# Altium footprint library Connectors_Misc.PcbLib: 46 footprints (part 2 of 3)
Each footprint in its own frame and in the unit in brackets; x right, y up, seen from the top. Pads: shape width x height; smd on the part's side, far side on the other; paste and mask are expansions set on the pad; w line width, h text height; cw(c..) or ccw(c..) is an arc to the next point about the centre after c.
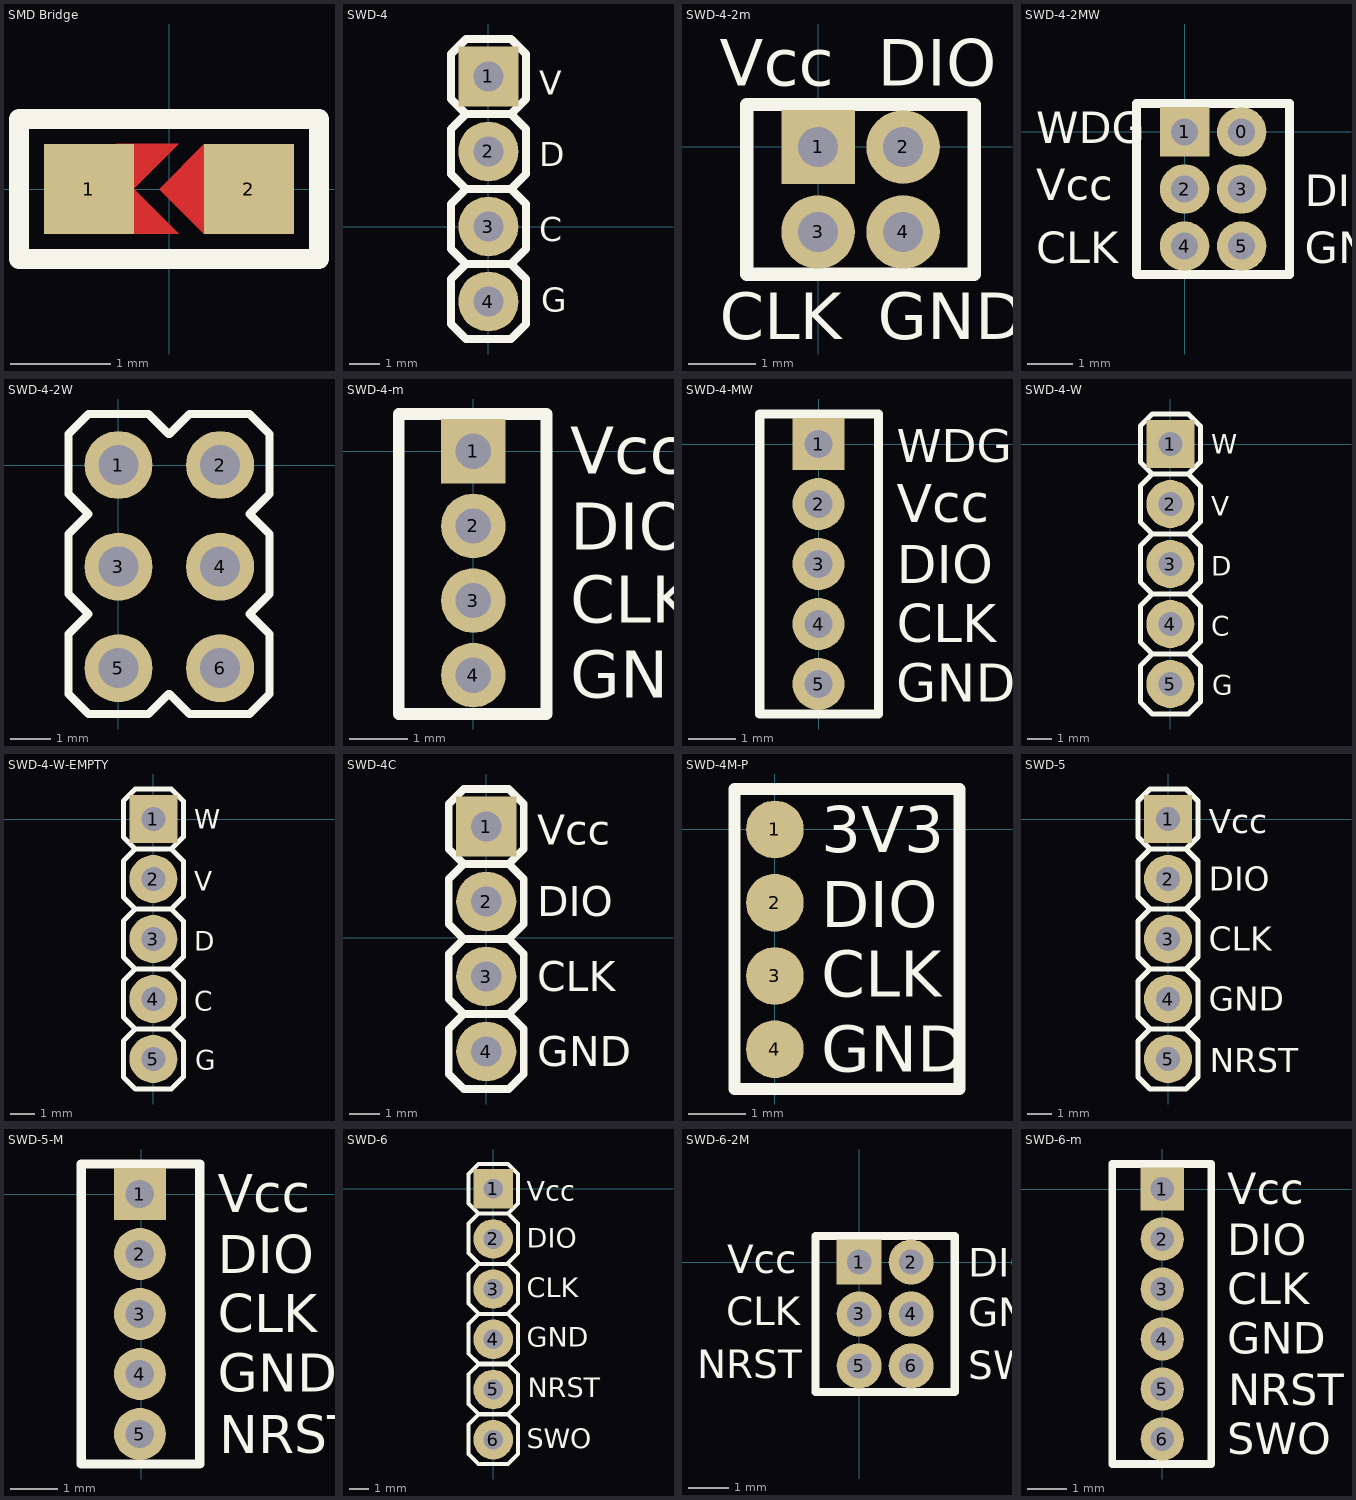
[diagram p1: the footprints below, top view; thin cyan lines are the x and y axes]

## SMD Bridge [mm]
pads (2):
  rect 0.9x0.9 smd: 1(-0.8,0) 2(0.8,0)
Top Layer:
  region: -0.525,0.45 0.1,0.45 -0.35,0 0.1,-0.45 -0.525,-0.45
  region: 0.35,0.45 -0.1,0 0.35,-0.45 0.5,-0.45 0.5,0.45
Top Overlay:
  lines w0.2: -1.5,-0.7 -1.5,0.7 1.5,0.7 1.5,-0.7 -1.5,-0.7
Top Solder:
  rectangle: -0.125,-0.55 0.525,0.55

## SWD-4 [mm]
pads (4):
  rect 2x2 hole 1: 1(0,5)
  round 2 hole 1: 2(0,2.5) 3(0,0) 4(0,-2.5)
Top Overlay:
  lines w0.254: -0.75,-1.25 0.75,-1.25 ; -0.75,-1.25 -1.25,-0.75 -1.25,0.75 -0.75,1.25 ; -0.75,-1.25 -1.25,-1.75 -1.25,-3.25 -0.75,-3.75 0.75,-3.75 1.25,-3.25 1.25,-1.75 0.75,-1.25 ; -0.75,1.25 -1.25,1.75 -1.25,3.25 -0.75,3.75 ; -0.75,1.25 0.75,1.25 ; -0.75,3.75 0.75,3.75 ; -0.75,3.75 -1.25,4.25 -1.25,5.75 -0.75,6.25 0.75,6.25 1.25,5.75 1.25,4.25 0.75,3.75 ; 0.75,-1.25 1.25,-0.75 1.25,0.75 0.75,1.25 ; 0.75,1.25 1.25,1.75 1.25,3.25 0.75,3.75
  text "G" at 1.751,-2.841 h0.8
  text "D" at 1.7,2 h0.8
  text "C" at 1.7,-0.5 h0.8
  text "V" at 1.7,4.4 h0.8
3D body "User Library-PLS-1.STEP": height 8.44, standoff -3, extent -1.27,-3.77 1.27,-1.23
3D body "User Library-PLS-1.STEP": height 8.44, standoff -3, extent -1.27,-1.27 1.27,1.27
3D body "User Library-PLS-1.STEP": height 8.44, standoff -3, extent -1.27,1.23 1.27,3.77
3D body "User Library-PLS-1.STEP": height 8.44, standoff -3, extent -1.27,3.73 1.27,6.27

## SWD-4-2m [mm]
pads (4):
  rect 1.1x1.1 hole 0.6: 1(0,0)
  round 1.1 hole 0.6: 2(1.27,0) 3(0,-1.27) 4(1.27,-1.27)
Top Overlay:
  lines w0.2: -1.067,-1.905 2.337,-1.905 2.337,0.635 -1.067,0.635 -1.067,-1.905
  text "DIO" at 0.889,0.914 h0.7
  text "CLK" at -1.473,-2.87 h0.7
  text "GND" at 0.889,-2.87 h0.7
  text "Vcc" at -1.473,0.914 h0.7
3D body "PLL-2.stp": height 5.2, standoff -2.9, extent 0.17,-2.1 2.37,0.85
3D body "PLL-2.stp": height 5.2, standoff -2.9, extent -1.1,-2.1 1.1,0.85

## SWD-4-2MW [mm]
pads (6):
  round 1.1 hole 0.6: 0(1.27,0) 2(0,-1.27) 3(1.27,-1.27) 4(0,-2.54) 5(1.27,-2.54)
  rect 1.1x1.1 hole 0.6: 1(0,0)
Top Overlay:
  lines w0.2: -1.067,-3.175 -1.067,0.635 2.337,0.635 2.337,-3.175 -1.067,-3.175
  text "Vcc" at -3.302,-1.524 h0.7
  text "GND" at 2.667,-2.921 h0.7
  text "CLK" at -3.302,-2.921 h0.7
  text "DIO" at 2.667,-1.651 h0.7
  text "WDG" at -3.302,-0.254 h0.7
3D body "PLL-3.stp": height 5.2, standoff -2.9, extent 0.17,-3.38 2.37,0.84
3D body "PLL-3.stp": height 5.2, standoff -2.9, extent -1.1,-3.38 1.1,0.84

## SWD-4-2W [mm]
pads (6):
  round 1.7 hole 1 paste+0: 1(0,0) 2(2.54,0) 3(0,-2.54) 4(2.54,-2.54) 5(0,-5.08) 6(2.54,-5.08)
Top Overlay:
  lines w0.2: 1.25,-5.725 0.75,-6.225 -0.75,-6.225 -1.25,-5.725 -1.25,-4.225 -0.75,-3.725 -1.25,-3.225 -1.25,-1.725 -0.75,-1.225 -1.25,-0.725 -1.25,0.775 -0.75,1.275 0.75,1.275 1.25,0.775 ; 1.275,-5.725 1.775,-6.225 3.275,-6.225 3.775,-5.725 3.775,-4.225 3.275,-3.725 3.775,-3.225 3.775,-1.725 3.275,-1.225 3.775,-0.725 3.775,0.775 3.275,1.275 1.775,1.275 1.275,0.775
3D body "User Library-PLS-1.STEP": height 8.44, standoff -3, extent -1.27,-1.27 1.27,1.27
3D body "User Library-PLS-1.STEP": height 8.44, standoff -3, extent 1.27,-1.27 3.81,1.27
3D body "User Library-PLS-1.STEP": height 8.44, standoff -3, extent -1.27,-3.81 1.27,-1.27
3D body "User Library-PLS-1.STEP": height 8.44, standoff -3, extent 1.27,-3.81 3.81,-1.27
3D body "User Library-PLS-1.STEP": height 8.44, standoff -3, extent -1.27,-6.35 1.27,-3.81
3D body "User Library-PLS-1.STEP": height 8.44, standoff -3, extent 1.27,-6.35 3.81,-3.81

## SWD-4-m [mm]
pads (4):
  rect 1.1x1.1 hole 0.6: 1(0,0)
  round 1.1 hole 0.6: 2(0,-1.27) 3(0,-2.54) 4(0,-3.81)
Top Overlay:
  lines w0.2: -1.27,-4.47 -1.27,0.635 1.245,0.635 1.245,-4.47 -1.27,-4.47
  text "Vcc" at 1.651,-0.381 h0.8
  text "GND" at 1.649,-4.19 h0.8
  text "CLK" at 1.651,-2.921 h0.8
  text "DIO" at 1.651,-1.676 h0.8
3D body "PLL-2.stp": height 5.2, standoff -2.9, extent -1.1,-4.64 1.1,-1.69
3D body "PLL-2.stp": height 5.2, standoff -2.9, extent -1.1,-2.1 1.1,0.85

## SWD-4-MW [mm]
pads (5):
  rect 1.1x1.1 hole 0.6: 1(0,0)
  round 1.1 hole 0.6: 2(0,-1.27) 3(0,-2.54) 4(0,-3.81) 5(0,-5.08)
Top Overlay:
  lines w0.2: -1.245,-5.715 1.27,-5.715 1.27,0.635 -1.245,0.635 -1.245,-5.715
  text "DIO" at 1.651,-2.946 h0.8
  text "CLK" at 1.651,-4.191 h0.8
  text "GND" at 1.649,-5.46 h0.8
  text "Vcc" at 1.651,-1.651 h0.8
  text "WDG" at 1.651,-0.381 h0.7
3D body "PLL-3.stp": height 5.2, standoff -2.9, extent -1.1,-3.38 1.1,0.84
3D body "PLL-2.stp": height 5.2, standoff -2.9, extent -1.1,-5.91 1.1,-2.96

## SWD-4-W [mm]
pads (5):
  rect 2x2 hole 1: 1(0,0)
  round 2 hole 1: 2(0,-2.5) 3(0,-5) 4(0,-7.5) 5(0,-10)
Top Overlay:
  lines w0.2: 1.25,-10.65 1.25,-9.4 ; -0.75,-8.75 0.75,-8.75 ; -0.75,-8.75 -1.25,-9.25 -1.25,-10.75 -0.75,-11.25 0.75,-11.25 1.25,-10.75 1.25,-9.25 0.75,-8.75 ; -0.75,-8.75 -1.25,-8.25 -1.25,-6.75 -0.75,-6.25 ; -0.75,-8.75 0.75,-8.75 ; -0.75,-6.25 -1.25,-5.75 -1.25,-4.25 -0.75,-3.75 ; -0.75,-6.25 0.75,-6.25 ; -0.75,-3.75 -1.25,-3.25 -1.25,-1.75 -0.75,-1.25 ; -0.75,-3.75 0.75,-3.75 ; -0.75,-1.25 -1.25,-0.75 -1.25,0.75 -0.75,1.25 0.75,1.25 1.25,0.75 1.25,-0.75 0.75,-1.25 ; -0.75,-1.25 0.75,-1.25 ; 0.75,-8.75 1.25,-8.25 1.25,-6.75 0.75,-6.25 ; 0.75,-6.25 1.25,-5.75 1.25,-4.25 0.75,-3.75 ; 0.75,-3.75 1.25,-3.25 1.25,-1.75 0.75,-1.25
  text "W" at 1.7,-0.4 h0.8
  text "V" at 1.7,-3 h0.8
  text "G" at 1.751,-10.441 h0.8
  text "C" at 1.7,-8 h0.8
  text "D" at 1.7,-5.5 h0.8
3D body "User Library-PLS-1.STEP": height 8.44, standoff -3, extent -1.27,-1.27 1.27,1.27
3D body "User Library-PLS-1.STEP": height 8.44, standoff -3, extent -1.27,-3.77 1.27,-1.23
3D body "User Library-PLS-1.STEP": height 8.44, standoff -3, extent -1.27,-6.27 1.27,-3.73
3D body "User Library-PLS-1.STEP": height 8.44, standoff -3, extent -1.27,-8.77 1.27,-6.23
3D body "User Library-PLS-1.STEP": height 8.44, standoff -3, extent -1.27,-11.27 1.27,-8.73

## SWD-4-W-EMPTY [mm]
pads (5):
  rect 2x2 hole 1: 1(0,0)
  round 2 hole 1: 2(0,-2.5) 3(0,-5) 4(0,-7.5) 5(0,-10)
Top Overlay:
  lines w0.2: 1.25,-10.65 1.25,-9.4 ; -0.75,-8.75 0.75,-8.75 ; -0.75,-8.75 -1.25,-9.25 -1.25,-10.75 -0.75,-11.25 0.75,-11.25 1.25,-10.75 1.25,-9.25 0.75,-8.75 ; -0.75,-8.75 -1.25,-8.25 -1.25,-6.75 -0.75,-6.25 ; -0.75,-8.75 0.75,-8.75 ; -0.75,-6.25 -1.25,-5.75 -1.25,-4.25 -0.75,-3.75 ; -0.75,-6.25 0.75,-6.25 ; -0.75,-3.75 -1.25,-3.25 -1.25,-1.75 -0.75,-1.25 ; -0.75,-3.75 0.75,-3.75 ; -0.75,-1.25 -1.25,-0.75 -1.25,0.75 -0.75,1.25 0.75,1.25 1.25,0.75 1.25,-0.75 0.75,-1.25 ; -0.75,-1.25 0.75,-1.25 ; 0.75,-8.75 1.25,-8.25 1.25,-6.75 0.75,-6.25 ; 0.75,-6.25 1.25,-5.75 1.25,-4.25 0.75,-3.75 ; 0.75,-3.75 1.25,-3.25 1.25,-1.75 0.75,-1.25
  text "W" at 1.7,-0.4 h0.8
  text "V" at 1.7,-3 h0.8
  text "G" at 1.751,-10.441 h0.8
  text "C" at 1.7,-8 h0.8
  text "D" at 1.7,-5.5 h0.8

## SWD-4C [mm] "SWD connector"
pads (4):
  rect 2x2 hole 1: 1(0,3.7)
  round 2 hole 1: 2(0,1.2) 3(0,-1.3) 4(0,-3.8)
Top Overlay:
  lines w0.254: -0.75,-2.55 0.75,-2.55 ; -0.75,-2.55 -1.25,-2.05 -1.25,-0.55 -0.75,-0.05 ; -0.75,-2.55 -1.25,-3.05 -1.25,-4.55 -0.75,-5.05 0.75,-5.05 1.25,-4.55 1.25,-3.05 0.75,-2.55 ; -0.75,-0.05 -1.25,0.45 -1.25,1.95 -0.75,2.45 ; -0.75,-0.05 0.75,-0.05 ; -0.75,2.45 0.75,2.45 ; -0.75,2.45 -1.25,2.95 -1.25,4.45 -0.75,4.95 0.75,4.95 1.25,4.45 1.25,2.95 0.75,2.45 ; 0.75,-2.55 1.25,-2.05 1.25,-0.55 0.75,-0.05 ; 0.75,-0.05 1.25,0.45 1.25,1.95 0.75,2.45
  text "DIO" at 1.7,0.7 h1
  text "CLK" at 1.7,-1.8 h1
  text "GND" at 1.7,-4.3 h1
  text "Vcc" at 1.7,3.1 h1
3D body "PLS-1R.step": height 5.45, standoff -3, extent -7.35,2.51 1.27,5.05
3D body "PLS-1R.step": height 5.45, standoff -3, extent -7.35,-2.57 1.27,-0.03
3D body "PLS-1R.step": height 5.45, standoff -3, extent -7.35,-5.11 1.27,-2.57
3D body "PLS-1R.step": height 5.45, standoff -3, extent -7.35,-0.03 1.27,2.51

## SWD-4M-P [mm] "SWD-4 mini pads"
pads (4):
  round 1 smd: 1(0,0) 2(0,-1.27) 3(0,-2.54) 4(0,-3.81)
Top Overlay:
  lines w0.2: -0.7,-4.5 -0.7,0.7 3.2,0.7 3.2,-4.5 -0.7,-4.5
  text "GND" at 0.8,-4.2 h0.8
  text "CLK" at 0.8,-2.9 h0.8
  text "DIO" at 0.8,-1.7 h0.8
  text "3V3" at 0.8,-0.4 h0.8

## SWD-5 [mm]
pads (5):
  rect 2x2 hole 1: 1(0,0)
  round 2 hole 1: 2(0,-2.5) 3(0,-5) 4(0,-7.5) 5(0,-10)
Top Overlay:
  lines w0.2: -0.75,-8.75 0.75,-8.75 ; -0.75,-8.75 -1.25,-9.25 -1.25,-10.75 -0.75,-11.25 0.75,-11.25 1.25,-10.75 1.25,-9.25 0.75,-8.75 ; -0.75,-8.75 -1.25,-8.25 -1.25,-6.75 -0.75,-6.25 ; -0.75,-8.75 0.75,-8.75 ; -0.75,-6.25 -1.25,-5.75 -1.25,-4.25 -0.75,-3.75 ; -0.75,-6.25 0.75,-6.25 ; -0.75,-3.75 -1.25,-3.25 -1.25,-1.75 -0.75,-1.25 ; -0.75,-3.75 0.75,-3.75 ; -0.75,-1.25 -1.25,-0.75 -1.25,0.75 -0.75,1.25 0.75,1.25 1.25,0.75 1.25,-0.75 0.75,-1.25 ; -0.75,-1.25 0.75,-1.25 ; 0.75,-8.75 1.25,-8.25 1.25,-6.75 0.75,-6.25 ; 0.75,-6.25 1.25,-5.75 1.25,-4.25 0.75,-3.75 ; 0.75,-3.75 1.25,-3.25 1.25,-1.75 0.75,-1.25
  text "NRST" at 1.75,-10.55 h1
  text "Vcc" at 1.7,-0.6 h1
  text "GND" at 1.7,-8 h1
  text "CLK" at 1.7,-5.5 h1
  text "DIO" at 1.7,-3 h1
3D body "User Library-PLS-1.STEP": height 8.44, standoff -3, extent -1.27,-1.27 1.27,1.27
3D body "User Library-PLS-1.STEP": height 8.44, standoff -3, extent -1.27,-3.77 1.27,-1.23
3D body "User Library-PLS-1.STEP": height 8.44, standoff -3, extent -1.27,-6.27 1.27,-3.73
3D body "User Library-PLS-1.STEP": height 8.44, standoff -3, extent -1.27,-8.77 1.27,-6.23
3D body "User Library-PLS-1.STEP": height 8.44, standoff -3, extent -1.27,-11.27 1.27,-8.73

## SWD-5-M [mm]
pads (5):
  rect 1.1x1.1 hole 0.6: 1(-0.025,0)
  round 1.1 hole 0.6: 2(-0.025,-1.27) 3(-0.025,-2.54) 4(-0.025,-3.81) 5(-0.025,-5.08)
Top Overlay:
  lines w0.2: -1.27,-5.715 1.245,-5.715 1.245,0.635 -1.27,0.635 -1.27,-5.715
  text "NRST" at 1.651,-5.486 h0.8
  text "DIO" at 1.626,-1.676 h0.8
  text "CLK" at 1.626,-2.921 h0.8
  text "GND" at 1.624,-4.19 h0.8
  text "Vcc" at 1.626,-0.381 h0.8
3D body "PLL-3.stp": height 5.2, standoff -2.9, extent -1.125,-3.38 1.075,0.84
3D body "PLL-2.stp": height 5.2, standoff -2.9, extent -1.125,-5.91 1.075,-2.96

## SWD-6 [mm]
pads (6):
  rect 2x2 hole 1: 1(0,0)
  round 2 hole 1: 2(0,-2.54) 3(0,-5.08) 4(0,-7.62) 5(0,-10.16) 6(0,-12.7)
Top Overlay:
  lines w0.2: -0.75,-6.31 -1.25,-5.81 -1.25,-4.31 -0.75,-3.81 0.75,-3.81 1.25,-4.31 1.25,-5.81 0.75,-6.31 ; -0.75,-3.75 -1.25,-3.25 -1.25,-1.75 -0.75,-1.25 ; 0.75,-3.75 1.25,-3.25 1.25,-1.75 0.75,-1.25 ; -0.75,-1.25 -1.25,-0.75 -1.25,0.75 -0.75,1.25 0.75,1.25 1.25,0.75 1.25,-0.75 0.75,-1.25 ; -0.75,-1.25 0.75,-1.25 ; -1.25,-13.43 -1.25,-11.93 -0.75,-11.43 0.75,-11.43 1.25,-11.93 1.25,-13.43 0.75,-13.93 -0.75,-13.93 -1.25,-13.43 ; -1.25,-10.89 -0.75,-11.39 0.75,-11.39 1.25,-10.89 1.25,-9.39 0.75,-8.89 -0.75,-8.89 -1.25,-9.39 -1.25,-10.89 ; -1.25,-8.35 -1.25,-6.85 -0.75,-6.35 0.75,-6.35 1.25,-6.85 1.25,-8.35 0.75,-8.85 -0.75,-8.85 -1.25,-8.35
  text "DIO" at 1.7,-3 h1
  text "CLK" at 1.7,-5.5 h1
  text "GND" at 1.7,-8 h1
  text "Vcc" at 1.7,-0.6 h1
  text "NRST" at 1.75,-10.55 h1
  text "SWO" at 1.7,-13.125 h1
3D body "User Library-PLS-1.STEP": height 8.44, standoff -3, extent -1.27,-1.27 1.27,1.27
3D body "User Library-PLS-1.STEP": height 8.44, standoff -3, extent -1.27,-3.81 1.27,-1.27
3D body "User Library-PLS-1.STEP": height 8.44, standoff -3, extent -1.27,-6.35 1.27,-3.81
3D body "User Library-PLS-1.STEP": height 8.44, standoff -3, extent -1.27,-8.89 1.27,-6.35
3D body "User Library-PLS-1.STEP": height 8.44, standoff -3, extent -1.27,-11.43 1.27,-8.89
3D body "User Library-PLS-1.STEP": height 8.44, standoff -3, extent -1.27,-13.97 1.27,-11.43

## SWD-6-2M [mm]
pads (6):
  rect 1.1x1.1 hole 0.6: 1(0,0)
  round 1.1 hole 0.6: 2(1.27,0) 3(0,-1.27) 4(1.27,-1.27) 5(0,-2.54) 6(1.27,-2.54)
Top Overlay:
  lines w0.2: -1.067,-3.175 -1.067,0.635 2.337,0.635 2.337,-3.175 -1.067,-3.175
  text "SWO" at 2.667,-2.87 h0.7
  text "NRST" at -3.962,-2.845 h0.7
  text "Vcc" at -3.226,-0.279 h0.7
  text "GND" at 2.667,-1.575 h0.7
  text "CLK" at -3.251,-1.549 h0.7
  text "DIO" at 2.667,-0.356 h0.7
3D body "PLL-3.stp": height 5.2, standoff -2.9, extent 0.17,-3.38 2.37,0.84
3D body "PLL-3.stp": height 5.2, standoff -2.9, extent -1.1,-3.38 1.1,0.84

## SWD-6-m [mm]
pads (6):
  rect 1.1x1.1 hole 0.6: 1(0,0)
  round 1.1 hole 0.6: 2(0,-1.27) 3(0,-2.54) 4(0,-3.81) 5(0,-5.08) 6(0,-6.35)
Top Overlay:
  lines w0.2: -1.27,0.61 -1.27,-6.985 1.245,-6.985 ; -1.27,0.635 1.245,0.635 1.245,-6.96
  text "NRST" at 1.676,-5.486 h0.8
  text "DIO" at 1.651,-1.676 h0.8
  text "CLK" at 1.651,-2.921 h0.8
  text "GND" at 1.649,-4.19 h0.8
  text "Vcc" at 1.651,-0.381 h0.8
  text "SWO" at 1.651,-6.731 h0.8
3D body "PLL-3.stp": height 5.2, standoff -2.9, extent -1.1,-3.38 1.1,0.84
3D body "PLL-3.stp": height 5.2, standoff -2.9, extent -1.1,-7.19 1.1,-2.97